# Altium footprint library INF-PG-TO220-7-11.PcbLib: 1 footprints
Each footprint in its own frame and in the unit in brackets; x right, y up, seen from the top. Pads: shape width x height; smd on the part's side, far side on the other; paste and mask are expansions set on the pad; w line width, h text height; cw(c..) or ccw(c..) is an arc to the next point about the centre after c.
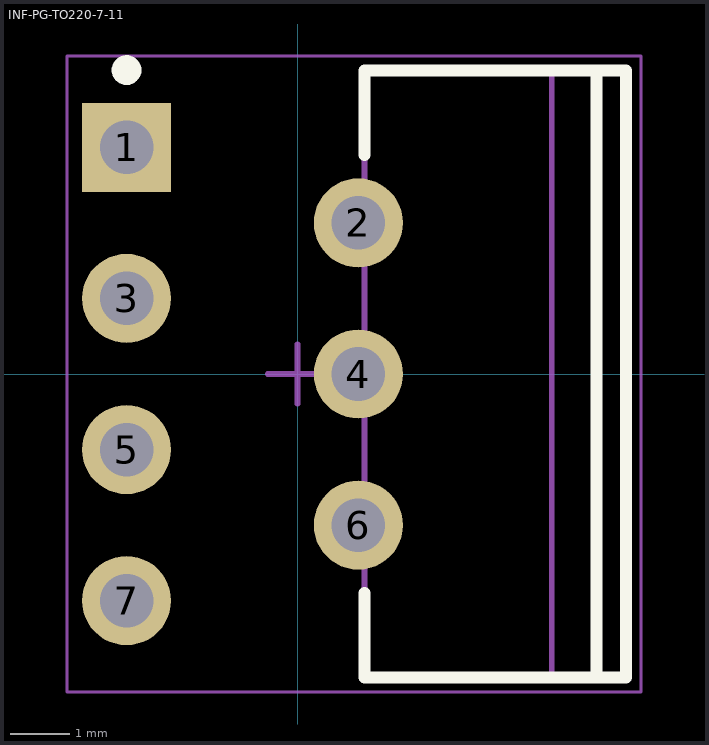
[diagram p0: the footprint, top view; thin cyan lines are the x and y axes]

## INF-PG-TO220-7-11 [mm] "FM, 7-Leads, Body 10x9.25mm, Pitch 1.27mm"
height 17.73
pads (7):
  rect 1.5x1.5 hole 0.9: 1(-2.875,3.81)
  round 1.5 hole 0.9: 2(1.025,2.54) 3(-2.875,1.27) 4(1.025,0) 5(-2.875,-1.27) 6(1.025,-2.54) 7(-2.875,-3.81)
Top Overlay:
  circle w0.25: c-2.875,5.11 r0.125
  lines w0.2: 1.125,-3.683 1.125,-5.1 5.525,-5.1 5.525,5.1 1.125,5.1 1.125,3.683 ; 5.025,-5.1 5.025,5.1
Mechanical 13:
  lines w0.1: 4.275,-5.1 4.275,5.1 ; 1.125,-5.1 1.125,5.1 5.525,5.1 5.525,-5.1 1.125,-5.1
Mechanical 15:
  lines w0.05: -3.875,-5.35 -3.875,5.35 5.775,5.35 5.775,-5.35 -3.875,-5.35
  lines w0.1: -0.5,0 0.5,0 ; 0,-0.5 0,0.5
3D body: height 0.21, standoff 0, extent -3.125,3.31 -2.625,4.31
3D body: height 0.71, standoff 0.21, extent -3.125,3.31 3.575,4.31
3D body: height 0.92, standoff 0.71, extent 3.075,3.31 3.575,4.31
3D body: height 0, standoff -1.6, extent -3.125,3.51 -2.625,4.11
3D body: height 0.21, standoff 0, extent 2.625,2.04 3.125,3.04
3D body: height 0.71, standoff 0.21, extent 2.625,2.04 3.575,3.04
3D body: height 0.92, standoff 0.71, extent 3.075,2.04 3.575,3.04
3D body: height 0, standoff -1.6, extent 2.625,2.24 3.125,2.84
3D body: height 0.21, standoff 0, extent -3.125,0.77 -2.625,1.77
3D body: height 0.71, standoff 0.21, extent -3.125,0.77 3.575,1.77
3D body: height 0.92, standoff 0.71, extent 3.075,0.77 3.575,1.77
3D body: height 0, standoff -1.6, extent -3.125,0.97 -2.625,1.57
3D body: height 0.21, standoff 0, extent 2.625,-0.5 3.125,0.5
3D body: height 0.71, standoff 0.21, extent 2.625,-0.5 3.575,0.5
3D body: height 0.92, standoff 0.71, extent 3.075,-0.5 3.575,0.5
3D body: height 0, standoff -1.6, extent 2.625,-0.3 3.125,0.3
3D body: height 0.21, standoff 0, extent -3.125,-1.77 -2.625,-0.77
3D body: height 0.71, standoff 0.21, extent -3.125,-1.77 3.575,-0.77
3D body: height 0.92, standoff 0.71, extent 3.075,-1.77 3.575,-0.77
3D body: height 0, standoff -1.6, extent -3.125,-1.57 -2.625,-0.97
3D body: height 0.21, standoff 0, extent 2.625,-3.04 3.125,-2.04
3D body: height 0.71, standoff 0.21, extent 2.625,-3.04 3.575,-2.04
3D body: height 0.92, standoff 0.71, extent 3.075,-3.04 3.575,-2.04
3D body: height 0, standoff -1.6, extent 2.625,-2.84 3.125,-2.24
3D body: height 0.21, standoff 0, extent -3.125,-4.31 -2.625,-3.31
3D body: height 0.71, standoff 0.21, extent -3.125,-4.31 3.575,-3.31
3D body: height 0.92, standoff 0.71, extent 3.075,-4.31 3.575,-3.31
3D body: height 0, standoff -1.6, extent -3.125,-4.11 -2.625,-3.51
3D body: height 11.33, standoff 0.92, extent 1.125,-5.1 5.525,5.1
3D body: height 13.11, standoff 11.33, extent 4.275,-4.95 5.525,4.95
3D body: height 13.15, standoff 13.11, extent 4.275,0.356 5.525,4.95
3D body: height 13.15, standoff 13.11, extent 4.275,-4.95 5.525,-0.356
3D body: height 16.76, standoff 16.72, extent 4.275,0.356 5.525,4.95
3D body: height 16.76, standoff 16.72, extent 4.275,-4.95 5.525,-0.356
3D body: height 13.25, standoff 13.14, extent 4.275,0.698 5.525,4.95
3D body: height 13.25, standoff 13.14, extent 4.275,-4.95 5.525,-0.698
3D body: height 16.72, standoff 16.62, extent 4.275,0.698 5.525,4.95
3D body: height 16.72, standoff 16.62, extent 4.275,-4.95 5.525,-0.698
3D body: height 13.42, standoff 13.24, extent 4.275,1.014 5.525,4.95
3D body: height 13.42, standoff 13.24, extent 4.275,-4.95 5.525,-1.014
3D body: height 16.62, standoff 16.45, extent 4.275,1.014 5.525,4.95
3D body: height 16.62, standoff 16.45, extent 4.275,-4.95 5.525,-1.014
3D body: height 13.64, standoff 13.41, extent 4.275,1.29 5.525,4.95
3D body: height 13.64, standoff 13.41, extent 4.275,-4.95 5.525,-1.29
3D body: height 16.45, standoff 16.22, extent 4.275,1.29 5.525,4.95
3D body: height 16.45, standoff 16.22, extent 4.275,-4.95 5.525,-1.29
3D body: height 13.92, standoff 13.64, extent 4.275,1.517 5.525,4.95
3D body: height 13.92, standoff 13.64, extent 4.275,-4.95 5.525,-1.517
3D body: height 16.23, standoff 15.94, extent 4.275,1.517 5.525,4.95
3D body: height 16.23, standoff 15.94, extent 4.275,-4.95 5.525,-1.517
3D body: height 14.24, standoff 13.92, extent 4.275,1.686 5.525,4.95
3D body: height 14.24, standoff 13.92, extent 4.275,-4.95 5.525,-1.686
3D body: height 15.95, standoff 15.63, extent 4.275,1.686 5.525,4.95
3D body: height 15.95, standoff 15.63, extent 4.275,-4.95 5.525,-1.686
3D body: height 14.58, standoff 14.23, extent 4.275,1.79 5.525,4.95
3D body: height 14.58, standoff 14.23, extent 4.275,-4.95 5.525,-1.79
3D body: height 15.63, standoff 15.29, extent 4.275,1.79 5.525,4.95
3D body: height 15.63, standoff 15.29, extent 4.275,-4.95 5.525,-1.79
3D body: height 14.93, standoff 14.57, extent 4.275,1.825 5.525,4.95
3D body: height 14.93, standoff 14.57, extent 4.275,-4.95 5.525,-1.825
3D body: height 15.29, standoff 14.93, extent 4.275,1.825 5.525,4.95
3D body: height 15.29, standoff 14.93, extent 4.275,-4.95 5.525,-1.825
3D body: height 17.73, standoff 16.76, extent 4.275,-4.95 5.525,4.95